# EAGLE library part ESP-12 (library Adafruit)
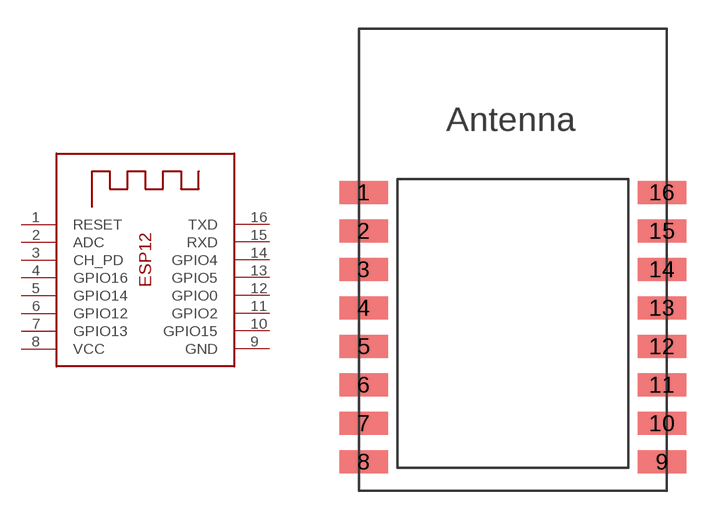
[diagram p118: symbol with the pads of ESP-12; footprint ESP-12]

Designator prefix X

## ESP-12  [ESP-12]
1  RESET  in
2  ADC  pas
3  CH_PD  in
4  GPIO16
5  GPIO14
6  GPIO12
7  GPIO13
8  VCC  pwr
9  GND  pwr
10  GPIO15
11  GPIO2
12  GPIO0
13  GPIO5
14  GPIO4
15  RXD  in
16  TXD  out

## Footprint ESP-12 (pad centres in mm)
smd 2.5 x 1.2: 1 -7.75,4.5; 2 -7.75,2.5; 3 -7.75,0.5; 4 -7.75,-1.5; 5 -7.75,-3.5; 6 -7.75,-5.5; 7 -7.75,-7.5; 8 -7.75,-9.5; 9 7.75,-9.5; 10 7.75,-7.5; 11 7.75,-5.5; 12 7.75,-3.5; 13 7.75,-1.5; 14 7.75,0.5; 15 7.75,2.5; 16 7.75,4.5